# Altium schematic symbol library SCH - POWER - SWITCHMODE - TI TPS62120_DCN_8.SchLib: 1 symbol
Pins are listed as number, name and electrical type; pins without a type are passive.

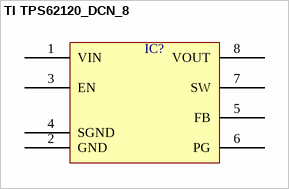
[diagram p0: symbol TI TPS62120_DCN_8]

## TI TPS62120_DCN_8
designator IC?  (value not drawn)
pins: 1 VIN, 2 GND, 3 EN, 4 SGND, 5 FB, 6 PG, 7 SW, 8 VOUT